# Altium schematic symbol library BM12B-NSHSS-TBT.SchLib: 1 symbol
Pins are listed as number, name and electrical type; pins without a type are passive.

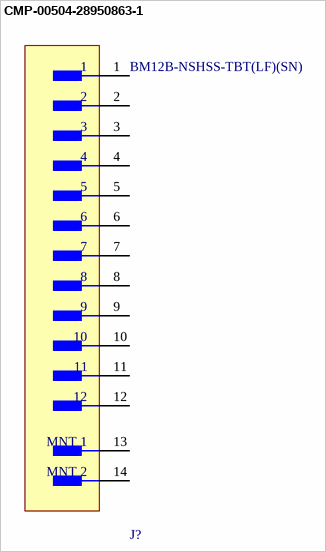
[diagram p0: symbol CMP-00504-28950863-1]

## CMP-00504-28950863-1
designator J?, comment BM12B-NSHSS-TBT(LF)(SN)
BM12B-NSHSS-TBT(LF)(SN) Conn Shrouded Header HDR 12 POS 1mm Solder ST SMD Reel; NexarPartId: 28950863; Max Voltage Rating (AC): 50V; Current Rating: 1A; Connector Type: Outer Shroud Contact; Number of Contacts: 12; Contact Resistance: 50mΩ; Pitch: 990.6µm; Min Operating Temperature: -25°C; Termination: Solder; Fastening Type: Latch; Length: 14mm; Color: Natural; Depth: 4.95mm; Mount: Surface Mount; Height: 6mm; Packaging: Tape & Reel (TR); RoHS: Compliant; Max Operating Temperature: 85°C; Number of Positions: 12; Contact Material: Copper, Tin; Max Current Rating: 1A; Contact Plating: Copper, Tin; Housing Color: Natural; Number of Rows: 1; Voltage Rating: 50V; Orientation: Straight; Housing Material: Polyamide
footprint FP-BM12B-NSHSS-TBT_LF_S-MFG
pins: 1, 2, 3, 4, 5, 6, 7, 8, 9, 10, 11, 12, 13 MNT 1, 14 MNT 2